# EAGLE library part LTC3225EDDB-1 (library Oles komponentbibliotek)
Programmable 150 mA supercapacitor charger
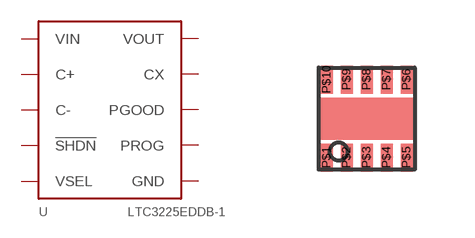
[diagram p45: symbol with the pads of DFN-EP-10; footprint DFN-EP-10]

Designator prefix -

## LTC3225EDDB-1  [DFN-EP-10]
P$1  C+  pas
P$2  C-  pas
P$3  CX  pwr
P$4  !SHDN  in
P$5  PGOOD  out
P$6  VSEL  in
P$7  PROG  in
P$8  GND  pwr
P$9  VIN  pwr
P$10  VOUT  pwr

## Footprint DFN-EP-10 (pad centres in mm)
DDB package 10-Lead Plastic DFN (3mm × 2mm) with exposed pad
smd 0.3 x 0.7: P$1 -1,-1.05; P$2 -0.5,-1.05; P$3 0,-1.05; P$4 0.5,-1.05; P$5 1,-1.05; P$6 1,0.9; P$7 0.5,0.9; P$8 0,0.9; P$9 -0.5,0.9; P$10 -1,0.9